# EAGLE library part TMS-110-XX-XX-D-TRACE (library TMS-110-XX-XX-D-plus-Trace-JTAG)
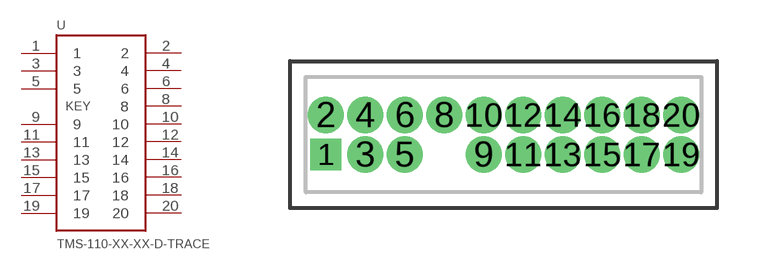
[diagram p1: symbol with the pads of TMS-110-XX-XX-D-TRACE; footprint TMS-110-XX-XX-D-TRACE]

Designator prefix -

## TMS-110-XX-XX-D-TRACE  [TMS-110-XX-XX-D-TRACE]
1  1
2  2
3  3
4  4
5  5
6  6
8  8
9  9
10  10
11  11
12  12
13  13
14  14
15  15
16  16
17  17
18  18
19  19
20  20

## Footprint TMS-110-XX-XX-D-TRACE (pad centres in mm)
drill 0.5 pad 0.914 square: 1 -5.715,0
drill 0.66 pad 0.813 round: 2 -5.715,1.27
drill 0.66 pad 0.914 round: 3 -4.445,0; 4 -4.445,1.27; 5 -3.175,0; 6 -3.175,1.27; 8 -1.905,1.27; 9 -0.635,0; 10 -0.635,1.27; 11 0.635,0; 12 0.635,1.27; 13 1.905,0; 14 1.905,1.27; 15 3.175,0; 16 3.175,1.27; 17 4.445,0; 18 4.445,1.27; 19 5.715,0; 20 5.715,1.27